# EAGLE library part 693120025011 (library MicroUSB)
WR-CRD COMPACT FLASH CARD CONNECTOR HEADER REVERSE TYPE 50PINS
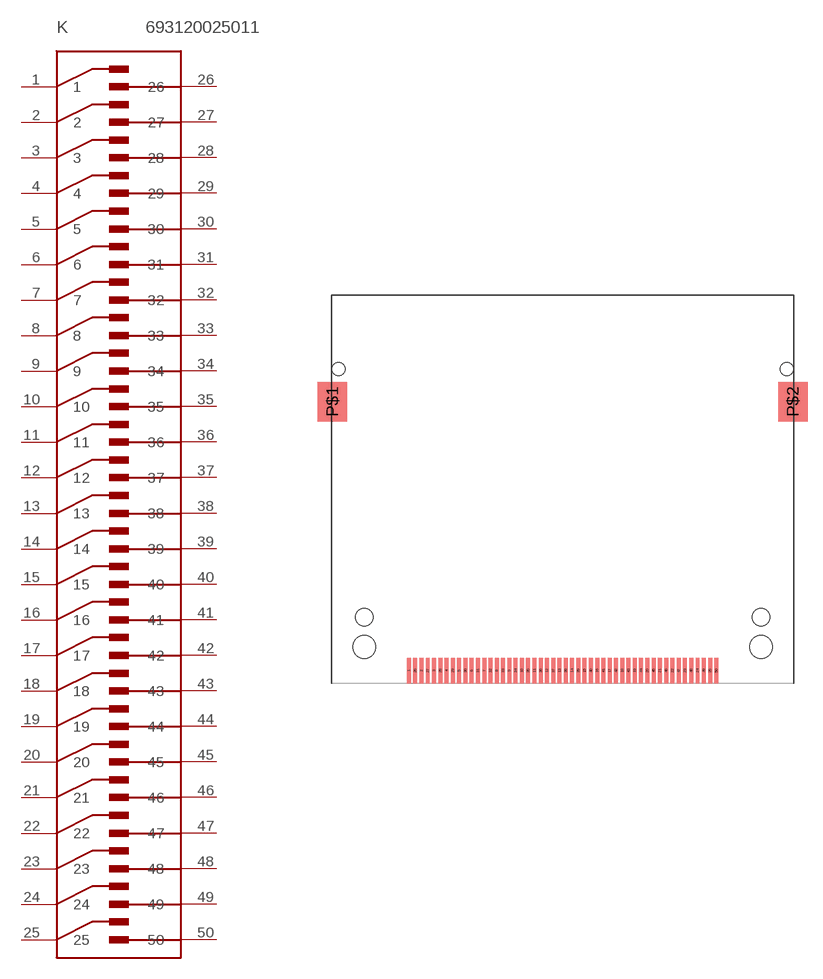
[diagram p34: symbol with the pads of 693120025011; footprint 693120025011]

Designator prefix K

## 693120025011  [693120025011]
1  1
2  2
3  3
4  4
5  5
6  6
7  7
8  8
9  9
10  10
11  11
12  12
13  13
14  14
15  15
16  16
17  17
18  18
19  19
20  20
21  21
22  22
23  23
24  24
25  25
26  26
27  27
28  28
29  29
30  30
31  31
32  32
33  33
34  34
35  35
36  36
37  37
38  38
39  39
40  40
41  41
42  42
43  43
44  44
45  45
46  46
47  47
48  48
49  49
50  50

## Footprint 693120025011 (pad centres in mm)
WR-CRD COMPACT FLASH CARD CONNECTOR HEADER REVERSE TYPE 50PINS
smd 0.4 x 2.6: 1 0,0; 2 1.27,0; 3 2.54,0; 4 3.81,0; 5 5.08,0; 6 6.35,0; 7 7.62,0; 8 8.89,0; 9 10.16,0; 10 11.43,0; 11 12.7,0; 12 13.97,0; 13 15.24,0; 14 16.51,0; 15 17.78,0; 16 19.05,0; 17 20.32,0; 18 21.59,0; 19 22.86,0; 20 24.13,0; 21 25.4,0; 22 26.67,0; 23 27.94,0; 24 29.21,0; 25 30.48,0; 26 0.635,0; 27 1.905,0; 28 3.175,0; 29 4.445,0; 30 5.715,0; 31 6.985,0; 32 8.255,0; 33 9.525,0; 34 10.795,0; 35 12.065,0; 36 13.335,0; 37 14.605,0; 38 15.875,0; 39 17.145,0; 40 18.415,0; 41 19.685,0; 42 20.955,0; 43 22.225,0; 44 23.495,0; 45 24.765,0; 46 26.035,0; 47 27.305,0; 48 28.575,0; 49 29.845,0; 50 31.115,0
smd 3 x 4: P$1 -7.74,27.2; P$2 38.855,27.2
hole 2.3 at -4.52,2.4
hole 2.3 at 35.635,2.4
hole 1.8 at 35.635,5.4
hole 1.8 at -4.52,5.4
hole 1.3 at 38.255,30.5
hole 1.3 at -7.14,30.5